# Altium schematic symbol library B8B-XH-A(LF)(SN).SchLib: 1 symbol
Pins are listed as number, name and electrical type; pins without a type are passive.

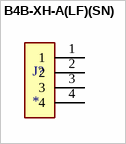
[diagram p0: symbol B4B-XH-A(LF)(SN)]

## B4B-XH-A(LF)(SN)
designator J?
XH Series 4 Position 2.5 mm Pitch Through Hole Crimp Top Entry Shrouded Header; MF: {'manufacturer': u'JST Sales America Inc.'}; MP: B4B-XH-A(LF)(SN); Price: None; Package: None; Availability: Unavailable; Value: *
footprint JST_B4B-XH-A(LF)(SN)
pins: 1, 2, 3, 4